# EAGLE library part T8F81 (library EfinixTrio)
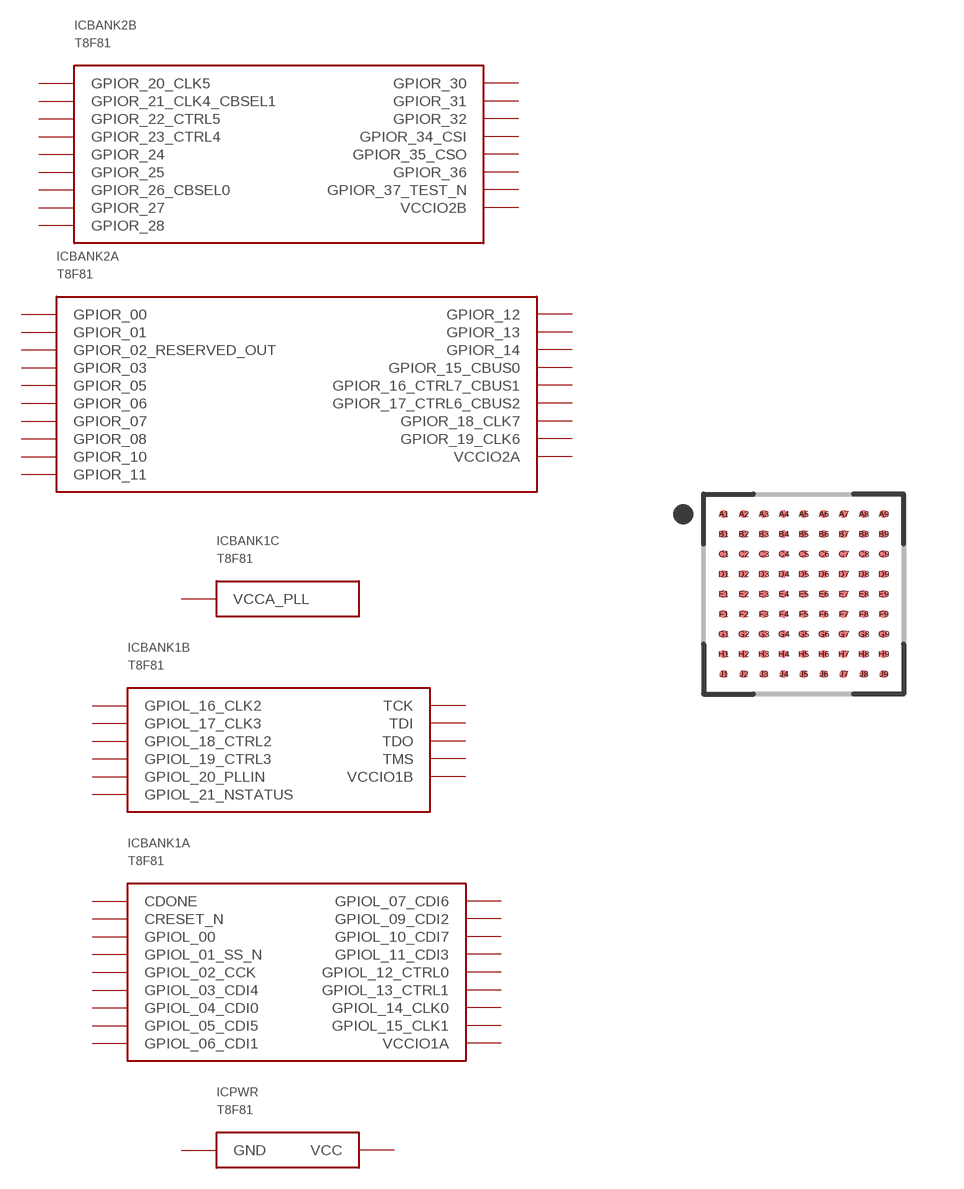
[diagram p19: symbol with the pads of FBGA81; footprint FBGA81]

Designator prefix IC; gates PWR=T8F81PWR BANK1A=T8F81BANK1A BANK1B=T8F81BANK1B BANK1C=T8F81BANK1C BANK2A=T8F81BANK2A BANK2B=T8F81BANK2B

## T8F81  [FBGA81]
A1  BANK1C:VCCA_PLL  pwr
A2  PWR:GND  pwr
A3  BANK1B:TDI
A4  BANK1B:TDO
A5  BANK2A:GPIOR_00
A6  BANK2A:GPIOR_03
A7  BANK2A:VCCIO2A  pwr
A8  BANK2A:GPIOR_08
A9  BANK2A:GPIOR_10
B1  PWR:GND  pwr
B2  BANK1B:VCCIO1B  pwr
B3  BANK1B:GPIOL_21_NSTATUS
B4  BANK1B:TMS
B5  BANK2A:GPIOR_01
B6  BANK2A:GPIOR_05
B7  PWR:GND  pwr
B8  BANK2A:GPIOR_11
B9  BANK2A:GPIOR_14
C1  PWR:VCC  pwr
C2  BANK1B:GPIOL_16_CLK2
C3  BANK1B:GPIOL_20_PLLIN
C4  BANK1B:TCK
C5  BANK2A:GPIOR_02_RESERVED_OUT
C6  BANK2A:GPIOR_06
C7  BANK2A:GPIOR_07
C8  BANK2A:GPIOR_12
C9  BANK2A:GPIOR_15_CBUS0
D1  PWR:GND  pwr
D2  BANK1B:GPIOL_17_CLK3
D3  BANK1B:GPIOL_19_CTRL3
D4  PWR:VCC  pwr
D5  PWR:GND  pwr
D6  BANK2A:GPIOR_13
D7  BANK2A:GPIOR_16_CTRL7_CBUS1
D8  BANK2A:GPIOR_17_CTRL6_CBUS2
D9  BANK2A:GPIOR_18_CLK7
E1  BANK1A:GPIOL_15_CLK1
E2  BANK1A:GPIOL_14_CLK0
E3  BANK1B:GPIOL_18_CTRL2
E4  PWR:GND  pwr
E5  PWR:VCC  pwr
E6  BANK2B:GPIOR_23_CTRL4
E7  BANK2B:GPIOR_21_CLK4_CBSEL1
E8  BANK2A:GPIOR_19_CLK6
E9  PWR:GND  pwr
F1  BANK1A:GPIOL_13_CTRL1
F2  PWR:VCC  pwr
F3  BANK1A:GPIOL_11_CDI3
F4  BANK1A:GPIOL_04_CDI0
F5  BANK2B:GPIOR_25
F6  BANK2B:GPIOR_24
F7  BANK2B:GPIOR_22_CTRL5
F8  BANK2B:GPIOR_20_CLK5
F9  PWR:VCC  pwr
G1  BANK1A:GPIOL_12_CTRL0
G2  PWR:GND  pwr
G3  BANK1A:GPIOL_07_CDI6
G4  BANK1A:GPIOL_03_CDI4
G5  BANK1A:GPIOL_00
G6  BANK2B:GPIOR_35_CSO
G7  PWR:GND  pwr
G8  BANK2B:GPIOR_31
G9  BANK2B:GPIOR_26_CBSEL0
H1  PWR:GND  pwr
H2  BANK1A:GPIOL_10_CDI7
H3  BANK1A:GPIOL_06_CDI1
H4  BANK1A:GPIOL_02_CCK
H5  BANK1A:CDONE
H6  BANK2B:GPIOR_36
H7  BANK2B:VCCIO2B  pwr
H8  BANK2B:GPIOR_32
H9  BANK2B:GPIOR_27
J1  BANK1A:VCCIO1A  pwr
J2  BANK1A:GPIOL_09_CDI2
J3  BANK1A:GPIOL_05_CDI5
J4  BANK1A:GPIOL_01_SS_N
J5  BANK1A:CRESET_N
J6  BANK2B:GPIOR_37_TEST_N
J7  BANK2B:GPIOR_34_CSI
J8  BANK2B:GPIOR_30
J9  BANK2B:GPIOR_28

## Footprint FBGA81 (pad centres in mm)
81-BGA, collapsing, 0.50 mm pitch, 5.00 X 5.00 X 0.83 mm body 81-pin collapsing BGA package with 0.50 mm col pitch and 0.50 mm row pitch with body size 5.00 X 5.00 X 0.83 mm
smd 0.2 x 0.2: A1 -2,2; A2 -1.5,2; A3 -1,2; A4 -0.5,2; A5 0,2; A6 0.5,2; A7 1,2; A8 1.5,2; A9 2,2; B1 -2,1.5; B2 -1.5,1.5; B3 -1,1.5; B4 -0.5,1.5; B5 0,1.5; B6 0.5,1.5; B7 1,1.5; B8 1.5,1.5; B9 2,1.5; C1 -2,1; C2 -1.5,1; C3 -1,1; C4 -0.5,1; C5 0,1; C6 0.5,1; C7 1,1; C8 1.5,1; C9 2,1; D1 -2,0.5; D2 -1.5,0.5; D3 -1,0.5; D4 -0.5,0.5; D5 0,0.5; D6 0.5,0.5; D7 1,0.5; D8 1.5,0.5; D9 2,0.5; E1 -2,0; E2 -1.5,0; E3 -1,0; E4 -0.5,0; E5 0,0; E6 0.5,0; E7 1,0; E8 1.5,0; E9 2,0; F1 -2,-0.5; F2 -1.5,-0.5; F3 -1,-0.5; F4 -0.5,-0.5; F5 0,-0.5; F6 0.5,-0.5; F7 1,-0.5; F8 1.5,-0.5; F9 2,-0.5; G1 -2,-1; G2 -1.5,-1; G3 -1,-1; G4 -0.5,-1; G5 0,-1; G6 0.5,-1; G7 1,-1; G8 1.5,-1; G9 2,-1; H1 -2,-1.5; H2 -1.5,-1.5; H3 -1,-1.5; H4 -0.5,-1.5; H5 0,-1.5; H6 0.5,-1.5; H7 1,-1.5; H8 1.5,-1.5; H9 2,-1.5; J1 -2,-2; J2 -1.5,-2; J3 -1,-2; J4 -0.5,-2; J5 0,-2; J6 0.5,-2; J7 1,-2; J8 1.5,-2; J9 2,-2